# Altium schematic symbol library LTC2053 Instrumentation Amp.Schlib: 1 symbol
Pins are listed as number, name and electrical type; pins without a type are passive.

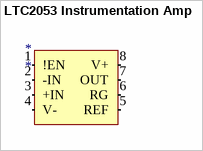
[diagram p0: symbol LTC2053 Instrumentation Amp]

## LTC2053 Instrumentation Amp
designator *
pins: 1 !EN (in), 2 -IN (in), 3 +IN (in), 4 V- (in), 5 REF (in), 6 RG (in), 7 OUT (in), 8 V+ (in)